# EAGLE library part AP3211 (library diodes_zetex)
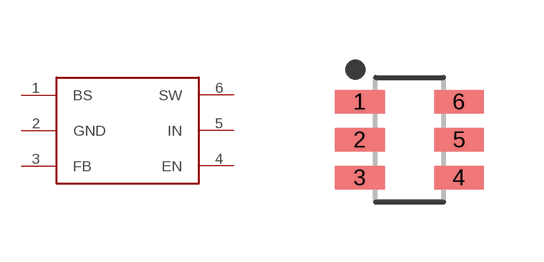
[diagram p0: symbol with the pads of SOT95P282X110-6; footprint SOT95P282X110-6]

Designator prefix -

## AP3211  [SOT95P282X110-6]
1  BS
2  GND
3  FB
4  EN
5  IN
6  SW

## Footprint SOT95P282X110-6 (pad centres in mm)
6-SOT23, 0.95 mm pitch, 2.83 mm span, 2.95 X 1.60 X 1.10 mm body 6-pin SOT23 package with 0.95 mm pitch, 2.83 mm span with body size 2.95 X 1.60 X 1.10 mm
smd 1.238 x 0.589: 1 -1.24,0.95; 2 -1.24,0; 3 -1.24,-0.95; 4 1.24,-0.95; 5 1.24,0; 6 1.24,0.95